# Altium schematic symbol library SCH - POWER - SWITCHMODE - TI TPS5403D.SchLib: 1 symbol
Pins are listed as number, name and electrical type; pins without a type are passive.

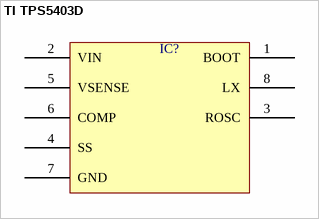
[diagram p0: symbol TI TPS5403D]

## TI TPS5403D
designator IC?  (value not drawn)
pins: 1 BOOT, 2 VIN, 3 ROSC, 4 SS, 5 VSENSE, 6 COMP, 7 GND, 8 LX